# EAGLE library part 8X8_PCB_PUSH_BUTTON_DPDT (library m1dst)
MARQUARDT SWITCH 9077.0200 Distributor: Buerklin <https://www.buerklin.com/default.asp?event=ShowArtikel%2812G2822%29&l=d&jump=ArtNr_12G2822>
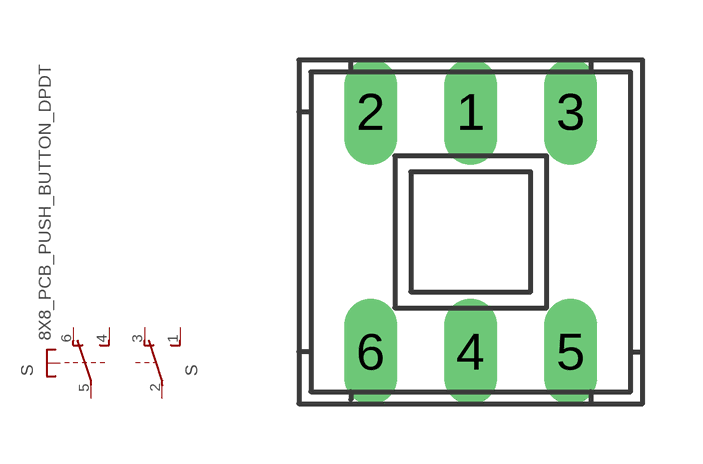
[diagram p11: symbol with the pads of 8X8_PCB_PUSH_BUTTON_DPDT; footprint 8X8_PCB_PUSH_BUTTON_DPDT]

Designator prefix S; gates 1=TSU- 2=U-2

## 8X8_PCB_PUSH_BUTTON_DPDT  [8X8_PCB_PUSH_BUTTON_DPDT]
1  2:S  pas
2  2:P  pas
3  2:O  pas
4  1:S  pas
5  1:P  pas
6  1:O  pas

## Footprint 8X8_PCB_PUSH_BUTTON_DPDT (pad centres in mm)
MARQUARDT SWITCH 9077.0200 Distributor: Buerklin <https://www.buerklin.com/default.asp?event=ShowArtikel%2812G2822%29&l=d&jump=ArtNr_12G2822>
drill 0.813 long: 1 0,3; 2 -2.5,3; 3 2.5,3; 4 0,-3; 5 2.5,-3; 6 -2.5,-3